# EAGLE library part LPF-S014331S_LIGHTPIPE (library light_pipe)
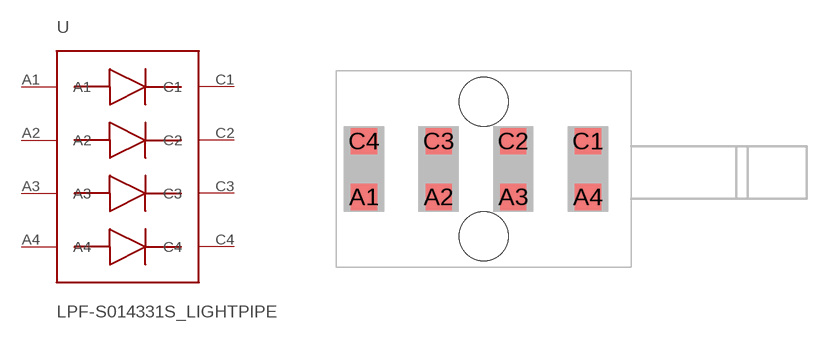
[diagram p0: symbol with the pads of 4X_LED_SMD_4_PINS; footprint 4X_LED_SMD_4_PINS]

Designator prefix -

## LPF-S014331S_LIGHTPIPE  [4X_LED_SMD_4_PINS]
A1  A1
A2  A2
A3  A3
A4  A4
C1  C1
C2  C2
C3  C3
C4  C4

## Footprint 4X_LED_SMD_4_PINS (pad centres in mm)
smd 1.6 x 1.6: A1 0,-1.7; A2 4.55,-1.7; A3 9.1,-1.7; A4 13.65,-1.7; C1 13.65,1.7; C2 9.1,1.7; C3 4.55,1.7; C4 0,1.7
hole 3 at 7.3,4.1
hole 3 at 7.3,-4.1